# Altium footprint library FootPrintLib_6.PcbLib: 588 footprints (part 14 of 37)
Each footprint in its own frame and in the unit in brackets; x right, y up, seen from the top. Pads: shape width x height; smd on the part's side, far side on the other; paste and mask are expansions set on the pad; w line width, h text height; cw(c..) or ccw(c..) is an arc to the next point about the centre after c.
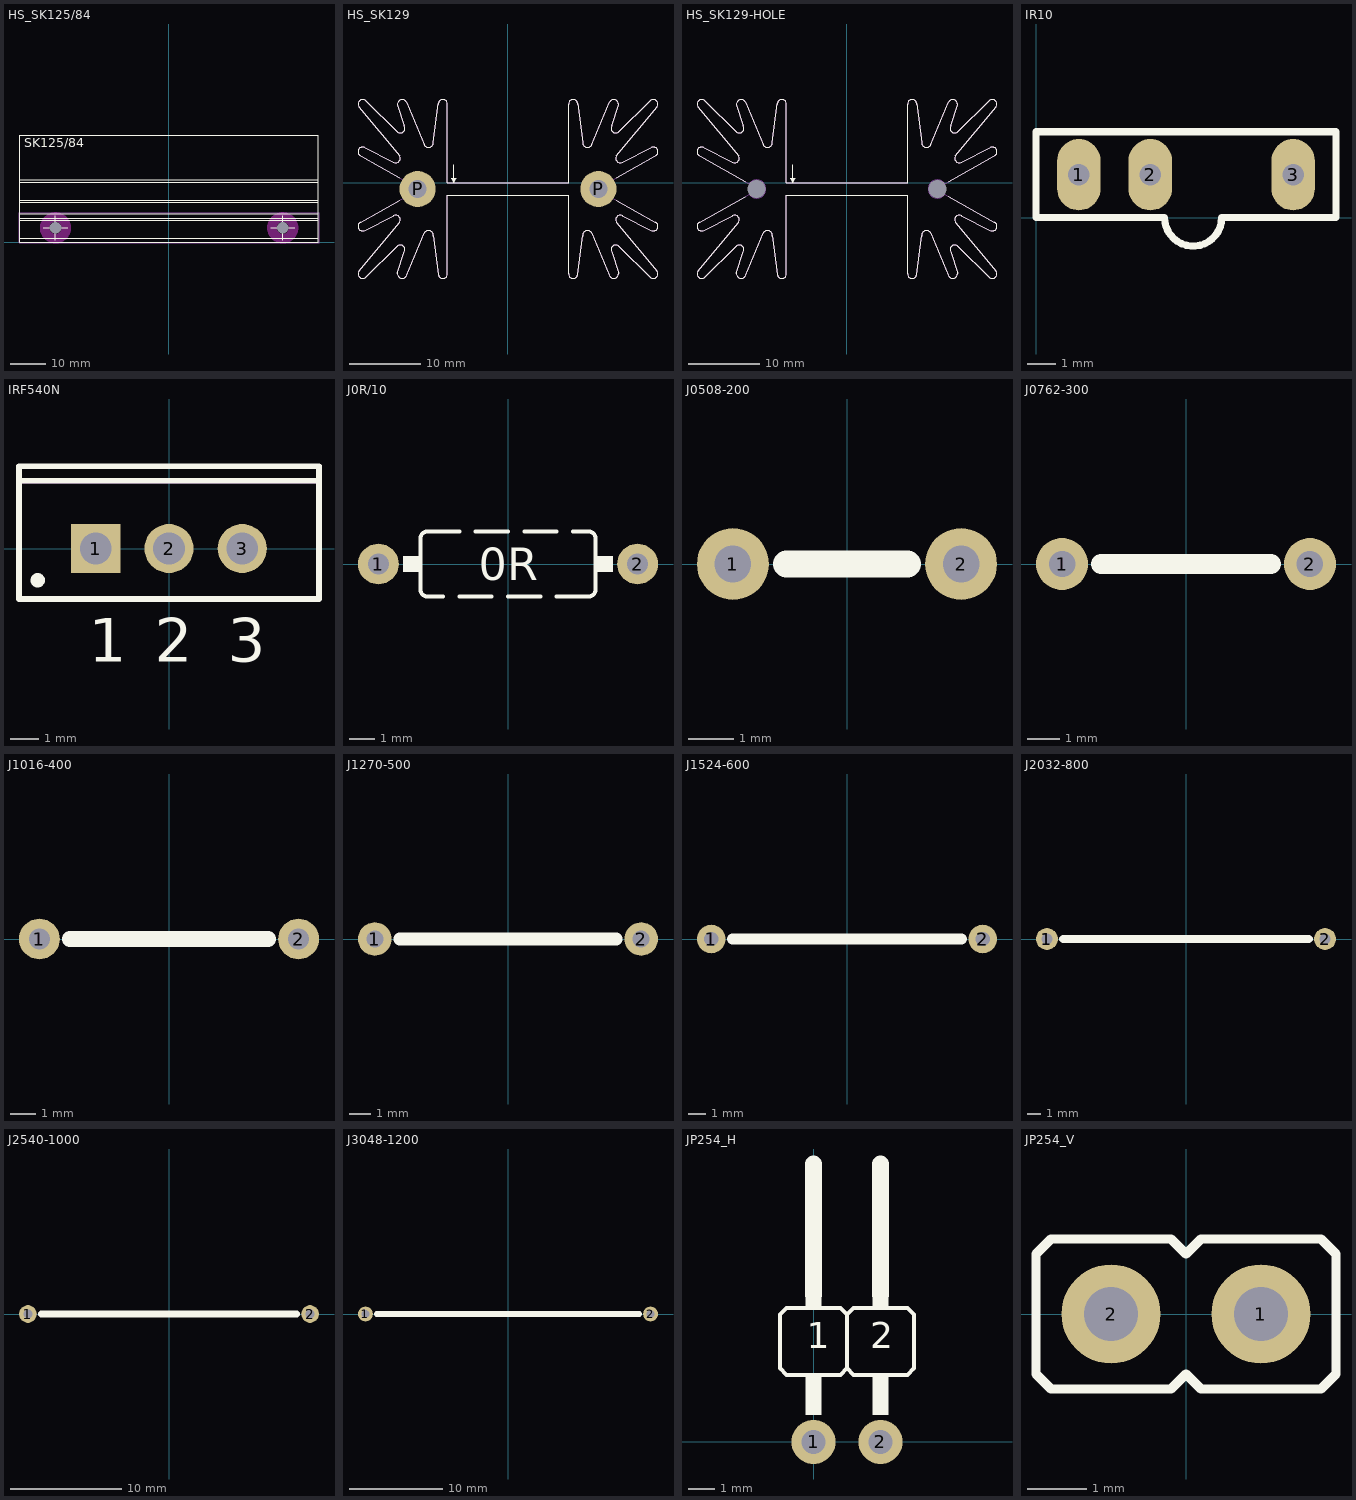
[diagram p13: the footprints below, top view; thin cyan lines are the x and y axes]

## HS_SK125/84 [mil]
pads (2):
  round 0 hole 130 unplated: MH(-1256,157) MH(1263,157)
Top Overlay:
  lines w2: -1391,157 -1121,157 ; -1256,22 -1256,292 ; 1128,157 1398,157 ; 1263,22 1263,292
  lines w6: -1650,240 1657,240 ; -1650,240 -1650,40 1657,40 1657,240 ; -1650,240 -1650,265 ; -1650,265 1657,265 ; -1650,265 -1650,440 ; -1650,440 1657,440 ; -1650,440 -1650,465 ; -1650,465 1657,465 ; -1650,465 -1650,665 ; -1650,665 1657,665 ; -1650,665 -1650,690 ; -1650,690 1657,690 ; -1650,690 -1650,1185 1657,1185 1657,690 ; 1657,240 1657,265 ; 1657,265 1657,315 ; 1657,265 1657,440 ; 1657,315 1657,0 -1650,0 -1650,315 1657,315 ; 1657,440 1657,465 ; 1657,465 1657,665 ; 1657,665 1657,690
  text "SK125/84" at -1600,1050 h100
Keep-Out Layer:
  circle w106: c1263,157 r120
  circle w106: c-1256,157 r120
Mechanical 2:
  lines w5: -1655,-10 1665,-10 ; -1660,-10 -1660,325 ; -1660,-10 1665,-10 ; -1660,-10 -1660,325 ; -1660,-10 1665,-10 ; -1660,-10 -1660,325 ; -1660,325 1665,325 ; -1660,325 1665,325 ; -1660,325 1665,325 ; 1665,-10 1665,325 ; 1665,-10 1665,325 ; 1665,-10 1665,325

## HS_SK129 [mil]
pads (2):
  round 200 hole 100: P(-500,-35) P(500,-35)
Top Overlay:
  lines w6: -825,-491 -600,-218 ; -825,-490 ccw(c-805,-505) -785,-520 ; -825,420 cw(c-805,435) -785,450 ; -825,421 -600,148 ; -816,-220 -600,-98.44 ; -816,150 -600,28.44 ; -815.38,-219.17 ccw(c-805,-242) -795,-264.99 -633,-183 ; -815.38,149.17 cw(c-805,172) -795,194.99 -633,113 ; -787,-522 -612,-352 ; -787,452 -612,282 ; -635.21,-184.15 cw(c-621,-205) -600,-219 ; -635.22,114.15 ccw(c-621,135) -600,149 ; -615,-355 cw(c-595,-370) -575,-385 ; -615,285 ccw(c-595,300) -575,315 ; -612,-500 -573,-381 ; -612,430 -573,311 ; -611.56,-498.57 ccw(c-585,-503) -560,-513 -464,-280 ; -611.56,428.57 cw(c-585,433) -560,443 -464,210 ; -465,-282 cw(c-440,-292) -413.44,-296.43 ; -465,212 ccw(c-440,222) -413.44,226.43 ; -413,-294 -385,-507 ; -413,224 -385,437 ; -385,-505 ccw(c-360,-505) -335,-505 -335,-70 335,-70 335,-505 ccw(c360,-505) 385,-505 ; -385,435 cw(c-360,435) -335,435 -335,0 -300,0 ; -300,100 -300,20 ; 385,-507 413,-294 ; 385,435 ccw(c360,435) 335,435 335,0 -300,0 ; 385,437 413,224 ; 413.44,-296.43 cw(c440,-292) 465,-282 ; 413.44,226.43 ccw(c440,222) 465,212 ; 464,-280 560,-513 ccw(c585,-503) 611.56,-498.57 ; 464,210 560,443 cw(c585,433) 611.56,428.57 ; 573,-381 612,-500 ; 573,311 612,430 ; 575,-385 cw(c595,-370) 615,-355 ; 575,315 ccw(c595,300) 615,285 ; 600,-219 cw(c621,-205) 635.22,-184.15 ; 600,-218 825,-491 ; 600,-98.44 816,-220 ; 600,28.44 816,150 ; 600,148 825,421 ; 600,149 ccw(c621,135) 635.22,114.14 ; 612,-352 787,-522 ; 612,282 787,452 ; 633,-183 795,-265 ccw(c805,-242) 815.38,-219.16 ; 633,113 795,195 cw(c805,172) 815.38,149.16 ; 785,-520 ccw(c805,-505) 825,-490 ; 785,450 cw(c805,435) 825,420 ; -310,25 -290,25 ; -310,25 -300,5 ; -310,25 -315,25 -300,0 ; -310,25 -300,20 ; -300,0 -285,25 -290,25 ; -300,0 -300,5 ; -300,5 -290,25 ; -300,5 -300,20 ; -300,20 -290,25
Mechanical 2:
  lines w6: -825,-491 -600,-218 ; -825,-490 ccw(c-805,-505) -785,-520 ; -825,420 cw(c-805,435) -785,450 ; -825,421 -600,148 ; -816,-220 -585,-90 -540,-65 ccw(c-500,-35) -540,-5 -585,20 -816,150 ; -815.38,-219.17 ccw(c-805,-242) -795,-264.99 -633,-183 ; -815.38,149.17 cw(c-805,172) -795,194.99 -633,113 ; -787,-522 -612,-352 ; -787,452 -612,282 ; -635.21,-184.15 cw(c-621,-205) -600,-219 ; -635.22,114.15 ccw(c-621,135) -600,149 ; -615,-355 cw(c-595,-370) -575,-385 ; -615,285 ccw(c-595,300) -575,315 ; -612,-500 -573,-381 ; -612,430 -573,311 ; -611.56,-498.57 ccw(c-585,-503) -560,-513 -464,-280 ; -611.56,428.57 cw(c-585,433) -560,443 -464,210 ; -465,-282 cw(c-440,-292) -413.44,-296.43 ; -465,212 ccw(c-440,222) -413.44,226.43 ; -413,-294 -385,-507 ; -413,224 -385,437 ; -385,-505 ccw(c-360,-505) -335,-505 -335,-70 335,-70 335,-505 ccw(c360,-505) 385,-505 ; -385,435 cw(c-360,435) -335,435 -335,0 -300,0 335,0 335,435 cw(c360,435) 385,435 ; 385,-507 413,-294 ; 385,437 413,224 ; 413.44,-296.43 cw(c440,-292) 465,-282 ; 413.44,226.43 ccw(c440,222) 465,212 ; 464,-280 560,-513 ccw(c585,-503) 611.56,-498.57 ; 464,210 560,443 cw(c585,433) 611.56,428.57 ; 573,-381 612,-500 ; 573,311 612,430 ; 575,-385 cw(c595,-370) 615,-355 ; 575,315 ccw(c595,300) 615,285 ; 600,-219 cw(c621,-205) 635.22,-184.15 ; 600,-218 825,-491 ; 600,148 825,421 ; 600,149 ccw(c621,135) 635.22,114.14 ; 612,-352 787,-522 ; 612,282 787,452 ; 633,-183 795,-265 ccw(c805,-242) 815.38,-219.16 ; 633,113 795,195 cw(c805,172) 815.38,149.16 ; 785,-520 ccw(c805,-505) 825,-490 ; 785,450 cw(c805,435) 825,420 ; 816,-220 585,-90 540,-65 cw(c500,-35) 540,-5 585,20 816,150
  text "2,5" at -550,-150 h50
  text "2,5" at 450,-150 h50

## HS_SK129-HOLE [mil]
pads (2):
  round 0 hole 100 unplated: MH(-500,-35) MH(500,-35)
Top Overlay:
  lines w6: -825,-491 -600,-218 ; -825,-490 ccw(c-805,-505) -785,-520 ; -825,420 cw(c-805,435) -785,450 ; -825,421 -600,148 ; -816,-220 -561.74,-76.91 ; -816,150 -560.08,5.97 ; -815.38,-219.16 ccw(c-805,-241.99) -795,-264.99 -633,-183 ; -815.38,149.17 cw(c-805,172) -795,195 -633,113 ; -787,-522 -612,-352 ; -787,452 -612,282 ; -635.22,-184.14 cw(c-621,-204.99) -600,-218.99 ; -635.21,114.15 ccw(c-620.99,135) -599.99,149.01 ; -615,-355 cw(c-595,-370) -575,-385 ; -615,285 ccw(c-595,300) -575,315 ; -612,-500 -573,-381 ; -612,430 -573,311 ; -611.56,-498.57 ccw(c-585,-503) -560,-513 -464,-280 ; -611.56,428.58 cw(c-585,433.01) -560,443.01 -464,210 ; -465,-281.99 cw(c-440,-291.99) -413.44,-296.42 ; -465,212 ccw(c-440,222) -413.44,226.43 ; -413,-294 -385,-507 ; -413,224 -385,437 ; -385,-505 ccw(c-360,-505) -335,-505 -335,-70 335,-70 335,-505 ccw(c360,-505) 385,-505 ; -385,435 cw(c-360,435) -335,435 -335,0 -300,0 ; -300,100 -300,20 ; 385,-507 413,-294 ; 385,435 ccw(c360,435) 335,435 335,0 -300,0 ; 385,437 413,224 ; 413.44,-296.42 cw(c440,-291.99) 465,-281.99 ; 413.44,226.43 ccw(c440,222) 465,212 ; 464,-280 560,-513 ccw(c585,-503) 611.55,-498.57 ; 464,210 560,443 cw(c585,433.01) 611.55,428.58 ; 560.08,-75.97 816,-220 ; 560.08,5.97 816,150 ; 573,-381 612,-500 ; 573,311 612,430 ; 575,-385 cw(c595,-370) 615,-355 ; 575,315 ccw(c595,300) 615,285 ; 600,-218.99 cw(c620.99,-204.99) 635.21,-184.14 ; 600,-218 825,-491 ; 600,148 825,421 ; 600,149 ccw(c621,135) 635.22,114.15 ; 612,-352 787,-522 ; 612,282 787,452 ; 633,-183 795,-265 ccw(c805,-241.99) 815.38,-219.16 ; 633,113 795,195 cw(c805,172) 815.38,149.17 ; 785,-520 ccw(c805,-505) 825,-490 ; 785,450 cw(c805,435) 825,420 ; -310,25 -300,20 ; -310,25 -315,25 -300,0 ; -310,25 -300,5 ; -310,25 -290,25 ; -300,0 -300,5 ; -300,0 -285,25 -290,25 ; -300,5 -300,20 ; -300,5 -290,25 ; -300,20 -290,25
Mechanical 2:
  lines w6: -825,-491 -600,-218 ; -825,-490 ccw(c-805,-505) -785,-520 ; -825,420 cw(c-805,435) -785,450 ; -825,421 -600,148 ; -816,-220 -585,-90 -540,-65 ccw(c-500,-35) -540,-5 -585,20 -816,150 ; -815.38,-219.16 ccw(c-805,-241.99) -795,-264.99 -633,-183 ; -815.38,149.17 cw(c-805,172) -795,195 -633,113 ; -787,-522 -612,-352 ; -787,452 -612,282 ; -635.22,-184.14 cw(c-621,-204.99) -600,-218.99 ; -635.21,114.15 ccw(c-620.99,135) -599.99,149.01 ; -615,-355 cw(c-595,-370) -575,-385 ; -615,285 ccw(c-595,300) -575,315 ; -612,-500 -573,-381 ; -612,430 -573,311 ; -611.56,-498.57 ccw(c-585,-503) -560,-513 -464,-280 ; -611.56,428.58 cw(c-585,433.01) -560,443.01 -464,210 ; -465,-281.99 cw(c-440,-291.99) -413.44,-296.42 ; -465,212 ccw(c-440,222) -413.44,226.43 ; -413,-294 -385,-507 ; -413,224 -385,437 ; -385,-505 ccw(c-360,-505) -335,-505 -335,-70 335,-70 335,-505 ccw(c360,-505) 385,-505 ; -385,435 cw(c-360,435) -335,435 -335,0 -300,0 335,0 335,435 cw(c360,435) 385,435 ; 385,-507 413,-294 ; 385,437 413,224 ; 413.44,-296.42 cw(c440,-291.99) 465,-281.99 ; 413.44,226.43 ccw(c440,222) 465,212 ; 464,-280 560,-513 ccw(c585,-503) 611.55,-498.57 ; 464,210 560,443 cw(c585,433.01) 611.55,428.58 ; 573,-381 612,-500 ; 573,311 612,430 ; 575,-385 cw(c595,-370) 615,-355 ; 575,315 ccw(c595,300) 615,285 ; 600,-218.99 cw(c620.99,-204.99) 635.21,-184.14 ; 600,-218 825,-491 ; 600,148 825,421 ; 600,149 ccw(c621,135) 635.22,114.15 ; 612,-352 787,-522 ; 612,282 787,452 ; 633,-183 795,-265 ccw(c805,-241.99) 815.38,-219.16 ; 633,113 795,195 cw(c805,172) 815.38,149.17 ; 785,-520 ccw(c805,-505) 825,-490 ; 785,450 cw(c805,435) 825,420 ; 816,-220 585,-90 540,-65 cw(c500,-35) 540,-5 585,20 816,150

## IR10 [mm]
pads (3):
  oval 1.524x2.5 hole 0.762: 1(1.5,1.5) 2(4,1.5) 3(9,1.5)
Top Overlay:
  lines w0.254: 0,0 4.5,0 ccw(c5.5,0) 6.5,0 10.5,0 10.5,3 0,3 0,0
3D body "User Library-tsop1738.step": height 21.5, standoff -9.1, extent 0.334,-2.159 10.334,3.641

## IRF540N [mm]
pads (3):
  rect 1.7x1.7 hole 1.1: 1(-2.54,0)
  round 1.7 hole 1.1: 2(0,0) 3(2.54,0)
Top Overlay:
  circle w0.25: c-4.55,-1.1 r0.125
  lines w0.2: -5.2,2.35 5.2,2.35 ; -5.2,-1.75 5.2,-1.75 5.2,2.85 -5.2,2.85 -5.2,-1.75
  text "3" at 2.04,-3.921 h1.5
  text "2" at -0.5,-3.921 h1.5
  text "1" at -2.79,-3.921 h1.5
Mechanical 13:
  lines w0.1: -5.2,2.3 5.2,2.3 ; -5.2,-1.75 -5.2,2.85 5.2,2.85 5.2,-1.75 -5.2,-1.75
Mechanical 15:
  lines w0.1: -0.5,0 0.5,0 ; 0,-0.5 0,0.5
3D body: height 13.5, standoff 3.5, extent -5.25,-1.8 5.25,2.9
3D body: height 19.7, standoff 13.5, extent -5.2,2.3 5.2,2.849

## J0R/10 [mil] "0 Ohm Jumper Resistor"
pads (2):
  round 63 hole 32: 1(-200,0) 2(200,0)
Top Overlay:
  rectangle: -162,-12 -135,12
  rectangle: 135,-12 162,12
  lines w6: -100,-50 -125,-50 cw(c-125,-40) -135,-40 -135,40 cw(c-125,40) -125,50 -75,50 ; -75,-50 -25,-50 ; -50,50 0,50 ; 0,-50 50,-50 ; 25,50 75,50 ; 75,-50 125,-50 ccw(c125,-40) 135,-40 135,40 ccw(c125,40) 125,50 100,50
  text "0R" at -45,-25 h50
3D body "SW3dPS-AXIAL_RESISTOR(0.25W).STEP": height 102.36, standoff -59.06, extent -215.74,-47.24 215.75,47.25

## J0508-200 [mil] "5.08 mm (200mil) Jumper wire"
pads (2):
  round 63 hole 32: 1(-100,0) 2(100,0)
Top Overlay:
  lines w24: -53,0 53,0
3D body: height 33.46, standoff 5.91, extent -113.64,-13.72 -86.22,13.72
3D body: height 33.46, standoff 5.91, extent 86.36,-13.72 113.78,13.72
3D body: height 33.44, standoff 5.93, extent -100,-13.67 100,13.78
3D body: height 19.68, standoff -78.74, extent -113.67,-13.75 -86.22,13.75
3D body: height 19.68, standoff -78.74, extent 86.33,-13.75 113.78,13.75

## J0762-300 [mil] "7.62 mm (300 mil) Jumper wire"
pads (2):
  round 63 hole 32: 1(-150,0) 2(150,0)
Top Overlay:
  lines w24: -103,0 103,0
3D body: height 19.68, standoff -78.74, extent 136.33,-13.81 163.78,13.7
3D body: height 19.68, standoff -78.74, extent -163.67,-13.75 -136.22,13.75
3D body: height 33.44, standoff 5.93, extent -150,-13.67 150,13.78
3D body: height 33.46, standoff 5.91, extent 136.36,-13.78 163.78,13.67
3D body: height 33.46, standoff 5.91, extent -163.64,-13.72 -136.22,13.72

## J1016-400 [mil] "10.16 mm (400 mil) Jumper wire"
pads (2):
  round 63 hole 32: 1(-200,0) 2(200,0)
Top Overlay:
  lines w24: -153,0 153,0
3D body: height 19.68, standoff -78.74, extent 186.33,-13.75 213.78,13.75
3D body: height 19.68, standoff -78.74, extent -213.67,-13.75 -186.22,13.75
3D body: height 33.44, standoff 5.93, extent -200,-13.67 200,13.78
3D body: height 33.46, standoff 5.91, extent 186.36,-13.72 213.78,13.72
3D body: height 33.46, standoff 5.91, extent -213.64,-13.72 -186.22,13.72

## J1270-500 [mil] "12.7 mm (500 mil) Jumper wire"
pads (2):
  round 63 hole 32: 1(-250,0) 2(250,0)
Top Overlay:
  lines w24: -203,0 203,0
3D body: height 19.68, standoff -78.74, extent 236.33,-13.75 263.78,13.75
3D body: height 19.68, standoff -78.74, extent -263.67,-13.75 -236.22,13.75
3D body: height 33.44, standoff 5.93, extent -250,-13.67 250,13.78
3D body: height 33.46, standoff 5.91, extent 236.36,-13.72 263.78,13.72
3D body: height 33.46, standoff 5.91, extent -263.64,-13.72 -236.22,13.72

## J1524-600 [mil] "15.24 mm (600 mil) Jumper wire"
pads (2):
  round 63 hole 32: 1(-300,0) 2(300,0)
Top Overlay:
  lines w24: -253,0 253,0
3D body: height 19.68, standoff -78.74, extent 286.33,-13.75 313.78,13.75
3D body: height 19.68, standoff -78.74, extent -313.67,-13.75 -286.22,13.75
3D body: height 33.44, standoff 5.93, extent -300,-13.67 300,13.78
3D body: height 33.46, standoff 5.91, extent 286.36,-13.72 313.78,13.72
3D body: height 33.46, standoff 5.91, extent -313.64,-13.72 -286.22,13.72

## J2032-800 [mil] "20.32 mm (800 mil) Jumper wire"
pads (2):
  round 63 hole 32: 1(-400,0) 2(400,0)
Top Overlay:
  lines w24: -353,0 353,0
3D body: height 19.68, standoff -78.74, extent 386.33,-13.75 413.78,13.75
3D body: height 19.68, standoff -78.74, extent -413.67,-13.75 -386.22,13.75
3D body: height 33.44, standoff 5.93, extent -400,-13.67 400,13.78
3D body: height 33.46, standoff 5.91, extent 386.36,-13.72 413.78,13.72
3D body: height 33.46, standoff 5.91, extent -413.64,-13.72 -386.22,13.72

## J2540-1000 [mil] "25.4 mm (1000 mil) Jumper wire"
pads (2):
  round 63 hole 32: 1(-500,0) 2(500,0)
Top Overlay:
  lines w24: -453,0 453,0
3D body: height 33.46, standoff 5.91, extent -513.64,-13.72 -486.22,13.72
3D body: height 33.46, standoff 5.91, extent 486.36,-13.83 513.78,13.61
3D body: height 33.44, standoff 5.93, extent -500,-13.67 500,13.78
3D body: height 19.68, standoff -78.74, extent -513.67,-13.75 -486.22,13.75
3D body: height 19.68, standoff -78.74, extent 486.33,-13.86 513.78,13.64

## J3048-1200 [mil] "30.48 mm (1200 mil) Jumper wire"
pads (2):
  round 63 hole 32: 1(-600,0) 2(600,0)
Top Overlay:
  lines w24: -553,0 553,0
3D body: height 19.68, standoff -78.74, extent 586.33,-13.86 613.78,13.64
3D body: height 19.68, standoff -78.74, extent -613.67,-13.75 -586.22,13.75
3D body: height 33.44, standoff 5.93, extent -600,-13.67 600,13.78
3D body: height 33.46, standoff 5.91, extent 586.36,-13.83 613.78,13.61
3D body: height 33.46, standoff 5.91, extent -613.64,-13.72 -586.22,13.72

## JP254_H [mil] "Jumper Header 2.54mm Pitch, Horizontal"
pads (2):
  round 66 hole 36: 1(0,0) 2(100,0)
Top Overlay:
  rectangle: -12,40 12,100
  rectangle: 88,40 112,100
  rectangle: 88,200 112,220
  rectangle: -12,200 12,220
  lines w6: 50,110 50,190 ; 50,110 60,100 140,100 150,110 150,190 140,200 60,200 50,190 ; 50,110 40,100 -40,100 -50,110 -50,190 -40,200 40,200 50,190
  lines w26: 0,220 0,415 ; 100,220 100,415
  text "1" at -10,140 h39
  text "2" at 85,140 h39
3D body "pin_header_aw140-ea-g02g.stp": height 100.39, standoff -92.52, extent -46.06,-12.96 146.06,425.62

## JP254_V [mil] "Jumper Header 2.54mm Pitch, Vertical"
height 393.7
pads (2):
  round 66 hole 36: 1(50,0) 2(-50,0)
Top Overlay:
  lines w6: -100,-40 -100,40 -90,50 -10,50 0,40 10,50 90,50 100,40 100,-40 90,-50 10,-50 0,-40 -10,-50 -90,-50 -100,-40
3D body "pin_header_aw140-eg-g02d.stp": height 322.83, standoff -118.11, extent -96.06,-49.21 100,49.21